# Altium schematic symbol library VESD05A8A-HNH-GS08.SchLib: 1 symbol
Pins are listed as number, name and electrical type; pins without a type are passive.

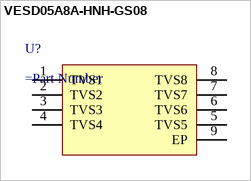
[diagram p0: symbol VESD05A8A-HNH-GS08]

## VESD05A8A-HNH-GS08
designator U?
=Description
pins: 1 TVS1, 2 TVS2, 3 TVS3, 4 TVS4, 5 TVS5, 6 TVS6, 7 TVS7, 8 TVS8, 9 EP